# Altium footprint library QFN12_UDB_3x2mm.PcbLib: 1 footprints
Each footprint in its own frame and in the unit in brackets; x right, y up, seen from the top. Pads: shape width x height; smd on the part's side, far side on the other; paste and mask are expansions set on the pad; w line width, h text height; cw(c..) or ccw(c..) is an arc to the next point about the centre after c.
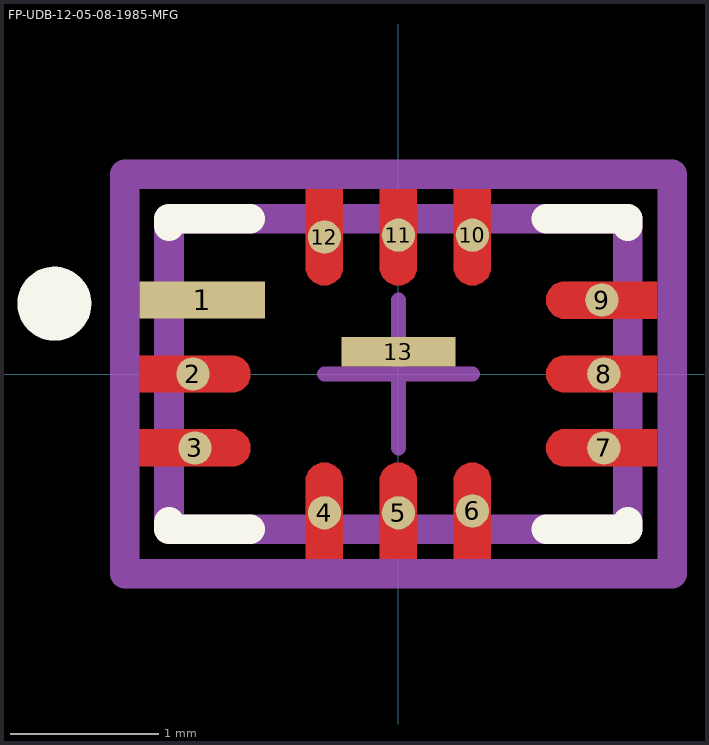
[diagram p0: the footprint, top view; thin cyan lines are the x and y axes]

## FP-UDB-12-05-08-1985-MFG [mm]
pads (13):
  rect 0.85x0.25 smd paste-0.05 mask+0.05: 1(-1.325,0.5)
  round 0.225 smd paste+0 mask+0: 2(-1.388,0) 3(-1.375,-0.5) 4(-0.5,-0.938) 5(0,-0.938) 6(0.5,-0.925) 7(1.388,-0.5) 8(1.388,0) 9(1.375,0.5) 10(0.5,0.938) 11(0,0.938) 12(-0.5,0.925)
  rect 0.77x0.2 smd paste-0.05 mask+0.05: 13(0,0.15)
Top Layer:
  region: -0.375,1.25 -0.375,0.725 -0.375,0.7 -0.394,0.654 -0.429,0.619 -0.475,0.6 -0.5,0.6 -0.525,0.6 -0.571,0.619 -0.606,0.654 -0.625,0.7 -0.625,0.725 -0.625,1.25
  region: 0.125,1.25 0.125,0.725 0.125,0.7 0.106,0.654 0.071,0.619 0.025,0.6 0,0.6 -0.025,0.6 -0.071,0.619 -0.106,0.654 -0.125,0.7 -0.125,0.725 -0.125,1.25
  region: 0.625,1.25 0.625,0.725 0.625,0.7 0.606,0.654 0.571,0.619 0.525,0.6 0.5,0.6 0.475,0.6 0.429,0.619 0.394,0.654 0.375,0.7 0.375,0.725 0.375,1.25
  region: 0.375,-1.25 0.375,-0.725 0.375,-0.7 0.394,-0.654 0.429,-0.619 0.475,-0.6 0.5,-0.6 0.525,-0.6 0.571,-0.619 0.606,-0.654 0.625,-0.7 0.625,-0.725 0.625,-1.25
  region: -0.125,-1.25 -0.125,-0.725 -0.125,-0.7 -0.106,-0.654 -0.071,-0.619 -0.025,-0.6 0,-0.6 0.025,-0.6 0.071,-0.619 0.106,-0.654 0.125,-0.7 0.125,-0.725 0.125,-1.25
  region: -0.625,-1.25 -0.625,-0.725 -0.625,-0.7 -0.606,-0.654 -0.571,-0.619 -0.525,-0.6 -0.5,-0.6 -0.475,-0.6 -0.429,-0.619 -0.394,-0.654 -0.375,-0.7 -0.375,-0.725 -0.375,-1.25
  region: 1.75,0.375 1.125,0.375 1.1,0.375 1.054,0.394 1.019,0.429 1,0.475 1,0.5 1,0.525 1.019,0.571 1.054,0.606 1.1,0.625 1.125,0.625 1.75,0.625
  region: 1.75,-0.125 1.125,-0.125 1.1,-0.125 1.054,-0.106 1.019,-0.071 1,-0.025 1,0 1,0.025 1.019,0.071 1.054,0.106 1.1,0.125 1.125,0.125 1.75,0.125
  region: 1.75,-0.625 1.125,-0.625 1.1,-0.625 1.054,-0.606 1.019,-0.571 1,-0.525 1,-0.5 1,-0.475 1.019,-0.429 1.054,-0.394 1.1,-0.375 1.125,-0.375 1.75,-0.375
  region: -1.75,-0.375 -1.125,-0.375 -1.1,-0.375 -1.054,-0.394 -1.019,-0.429 -1,-0.475 -1,-0.5 -1,-0.525 -1.019,-0.571 -1.054,-0.606 -1.1,-0.625 -1.125,-0.625 -1.75,-0.625
  region: -1.75,0.125 -1.125,0.125 -1.1,0.125 -1.054,0.106 -1.019,0.071 -1,0.025 -1,0 -1,-0.025 -1.019,-0.071 -1.054,-0.106 -1.1,-0.125 -1.125,-0.125 -1.75,-0.125
Top Overlay:
  circle w0.25: c-2.325,0.475 r0.125
  lines w0.2: -1.55,-1 -1.55,-1.05 -1,-1.05 ; -1.55,1 -1.55,1.05 -1,1.05 ; 1,-1.05 1.55,-1.05 1.55,-1 ; 1,1.05 1.55,1.05 1.55,1
Top Assembly:
  lines w0.2: -1.85,-1.35 -1.85,1.35 1.85,1.35 1.85,-1.35 -1.85,-1.35
Top 3D Body:
  lines w0.2: -1.55,-1.05 -1.55,1.05 1.55,1.05 1.55,-1.05 -1.55,-1.05
Top Courtyard:
  lines w0.2: -1.85,-1.35 -1.85,1.35 1.85,1.35 1.85,-1.35 -1.85,-1.35
Top Component Center:
  lines w0.1: -0.5,0 0.5,0 ; 0,-0.5 0,0.5
3D body "IC_Analog_Devices_LTC5553IUDB#TRMPBF_eec.STEP": height 0.25, standoff 0, extent -1.85,-1.35 1.85,1.35